# Altium footprint library LacewingPXE_v3p1.PcbLib: 35 footprints (part 2 of 3)
Each footprint in its own frame and in the unit in brackets; x right, y up, seen from the top. Pads: shape width x height; smd on the part's side, far side on the other; paste and mask are expansions set on the pad; w line width, h text height; cw(c..) or ccw(c..) is an arc to the next point about the centre after c.
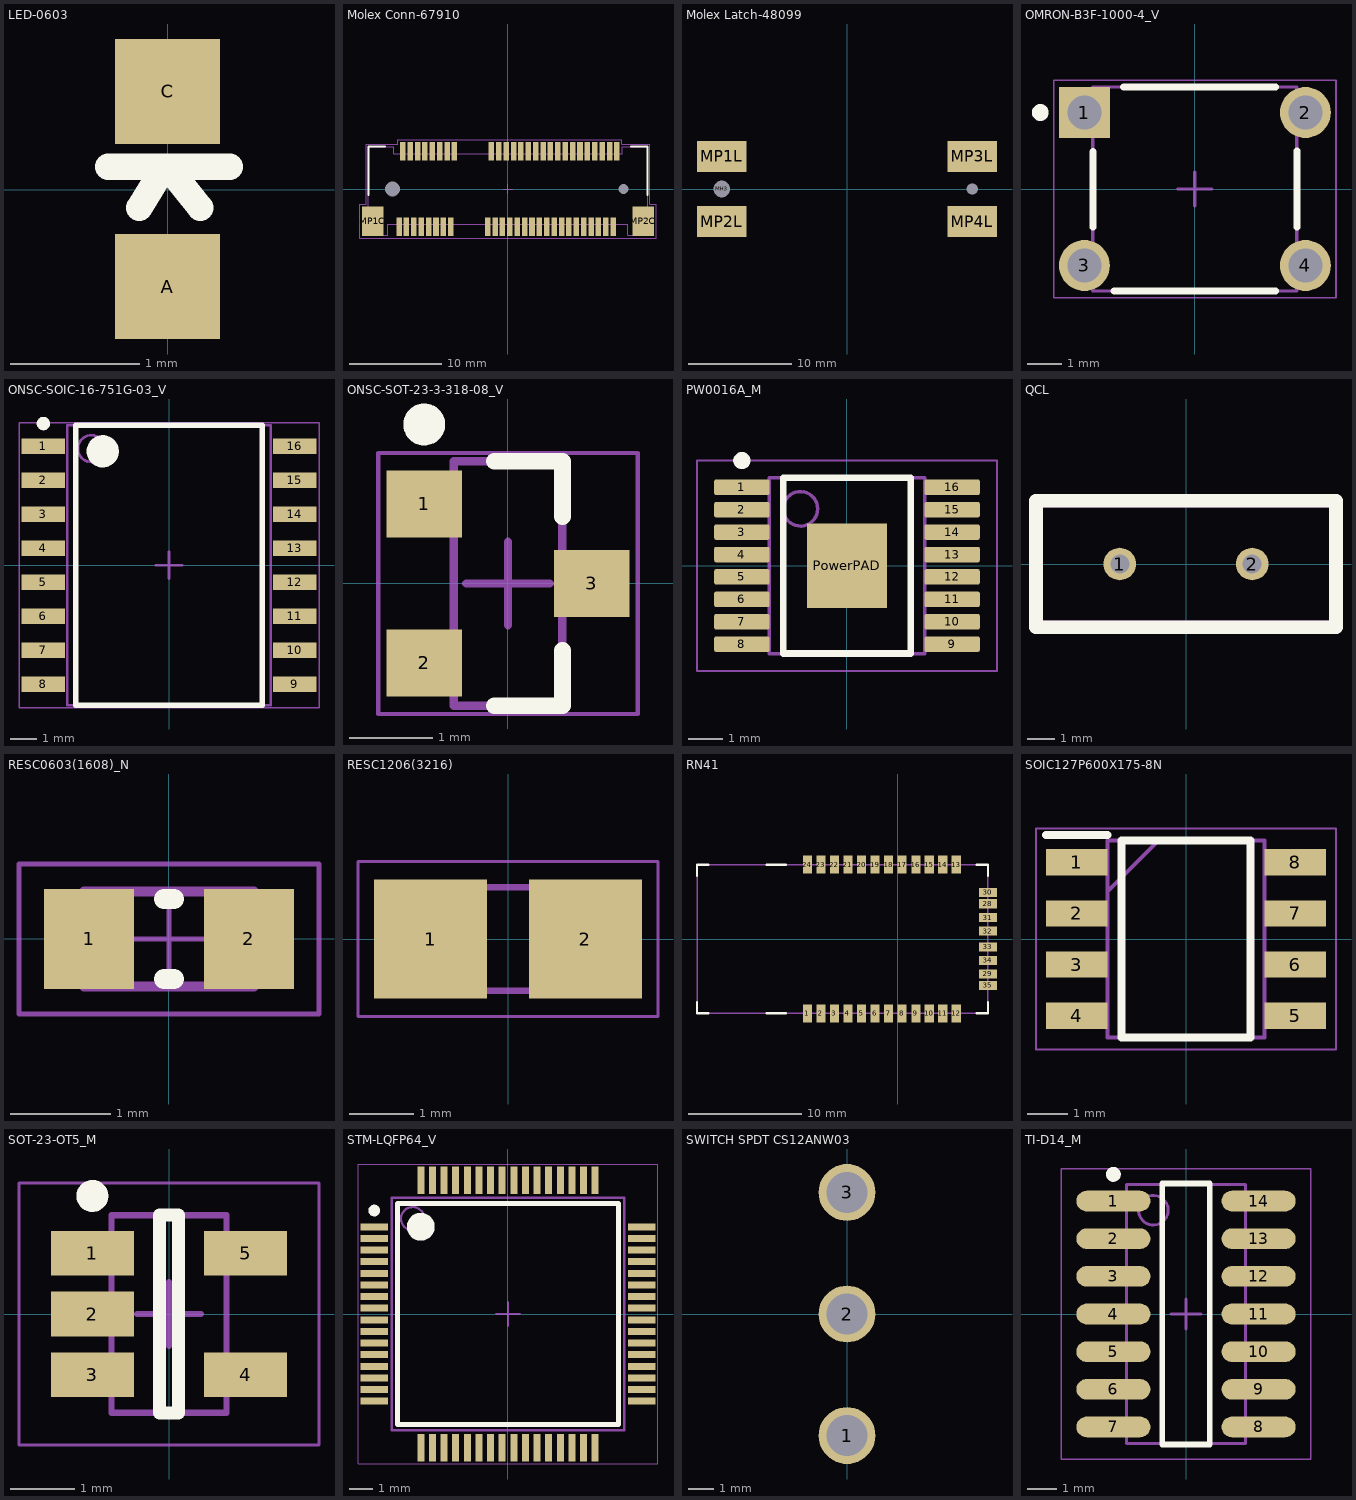
[diagram p1: the footprints below, top view; thin cyan lines are the x and y axes]

## LED-0603 [mil] "LED-0603"
pads (2):
  rect 32x32 smd: A(0,-29.53) C(0,30)
Top Overlay:
  lines w8: -18.11,7 0,7 ; -8.6,-5.51 -1,7 ; 10,-5.51 0,7 ; 19,7 0,7

## Molex Conn-67910 [mm] "Board-to-Board Connector, SMT, Right Angle, Pitch 0.8mm, 52-Position, Female"
pads (56):
  rect 0.6x2 smd: 1(-11.8,-4.1) 2(-11.4,4.1) 3(-11,-4.1) 4(-10.6,4.1) 5(-10.2,-4.1) 6(-9.8,4.1) 7(-9.4,-4.1) 8(-9,4.1) 9(-8.6,-4.1) 10(-8.2,4.1) 11(-7.8,-4.1) 12(-7.4,4.1) 13(-7,-4.1) 14(-6.6,4.1) 15(-6.2,-4.1) 16(-5.8,4.1) 17(-2.2,-4.1) 18(-1.8,4.1) 19(-1.4,-4.1) 20(-1,4.1) 21(-0.6,-4.1) 22(-0.2,4.1) 23(0.2,-4.1) 24(0.6,4.1) 25(1,-4.1) 26(1.4,4.1) 27(1.8,-4.1) 28(2.2,4.1) 29(2.6,-4.1) 30(3,4.1) 31(3.4,-4.1) 32(3.8,4.1) 33(4.2,-4.1) 34(4.6,4.1) 35(5,-4.1) 36(5.4,4.1) 37(5.8,-4.1) 38(6.2,4.1) 39(6.6,-4.1) 40(7,4.1) 41(7.4,-4.1) 42(7.8,4.1) 43(8.2,-4.1) 44(8.6,4.1) 45(9,-4.1) 46(9.4,4.1) 47(9.8,-4.1) 48(10.2,4.1) 49(10.6,-4.1) 50(11,4.1) 51(11.4,-4.1) 52(11.8,4.1)
  round 1.3 hole 1.6 unplated: MH1(-12.5,0)
  round 0.8 hole 1.1 unplated: MH2(12.5,0)
  rect 2.3x3.2 smd: MP1C(-14.65,-3.5) MP2C(14.65,-3.5)
Top Overlay:
  lines w0.2: -15.125,-0.633 -15.125,4.6 -14.907,4.6 -13.338,4.6 ; 13.329,4.6 15.125,4.6 ; 15.125,-0.645 15.125,4.535
Mechanical 13:
  lines w0.1: -15.125,-3.8 -14.025,-3.8 ; -15.125,-3.798 -15.125,4.6 -14.907,4.6 -12.375,4.6 -12.375,3.799 ; -14.027,-5 -13,-5 -13,-3.8 13,-3.8 13,-5 14.01,-5 14.025,-4.985 14.025,-3.804 ; -14.025,-5 -14.025,-3.822 ; -12.375,3.8 12.375,3.8 12.375,4.601 ; 12.375,4.6 15.125,4.6 15.125,4.535 15.125,-3.796 ; 14.025,-3.8 15.125,-3.8
Mechanical 15:
  lines w0.1: -0.5,0 0.5,0 ; 0,-0.5 0,0.5 ; -16.05,-5.35 16.05,-5.35 16.05,-1.65 15.375,-1.65 15.375,4.85 12.35,4.85 12.35,5.35 -11.95,5.35 -11.95,4.85 -15.375,4.85 -15.375,-1.65 -16.05,-1.65 -16.05,-5.35
3D body: height 0.82, standoff 0.2, extent 12.35,3.8 15,4.5
3D body: height 0.82, standoff 0.2, extent 15,4.5 15,4.5
3D body: height 0.82, standoff 0.2, extent -15,3.7 -12.35,4.5
3D body: height 1.34, standoff 0.69, extent 12.1,-4.25 13.79,-3.7
3D body: height 1.34, standoff 0.69, extent -13.79,-4.25 -12.1,-3.7
3D body: height 5.6, standoff 4.54, extent -13.79,-5 -12.1,-3.7
3D body: height 5.6, standoff 4.54, extent 12.1,-5 13.79,-3.7
3D body: height 5.6, standoff 3.12, extent -15,-3.7 15,3.677
3D body: height 3.12, standoff 0, extent -15,-3.7 15,3.8

## Molex Latch-48099 [mm]
pads (6):
  round 1.3 hole 1.6 unplated: MH3(-12.1,0)
  round 0.8 hole 1.1 unplated: MH4(12.1,0)
  rect 4.8x3 smd: MP1L(-12.1,3.15) MP2L(-12.1,-3.15) MP3L(12.1,3.15) MP4L(12.1,-3.15)

## OMRON-B3F-1000-4_V [mm] "TH, 4-Leads, Body 6x6mm"
height 4.5
pads (4):
  rect 1.5x1.5 hole 1 paste+0: 1(-3.25,2.25)
  round 1.5 hole 1 paste+0: 2(3.25,2.25) 3(-3.25,-2.25) 4(3.25,-2.25)
Top Overlay:
  circle w0.25: c-4.55,2.25 r0.125
  lines w0.2: -3,-1.127 -3,1.1 ; -2.378,-3 2.378,-3 ; -2.1,3 2.378,3 ; 3,-1.127 3,1.127
Mechanical 13:
  lines w0.1: -3,-3 -3,3 3,3 3,-3 -3,-3
Mechanical 15:
  lines w0.05: -4.15,-3.2 -4.15,3.2 4.15,3.2 4.15,-3.2 -4.15,-3.2
  lines w0.1: -0.5,0 0.5,0 ; 0,-0.5 0,0.5
3D body: height 4.5, standoff 0, extent -3,-3 3,3

## ONSC-SOIC-16-751G-03_V [mm] "SOIC, 16-Leads, Body 10.45x7.6mm, Pitch 1.27mm"
height 2.65
pads (16):
  rect 1.62x0.58 smd: 1(-4.69,4.445) 2(-4.69,3.175) 3(-4.69,1.905) 4(-4.69,0.635) 5(-4.69,-0.635) 6(-4.69,-1.905) 7(-4.69,-3.175) 8(-4.69,-4.445) 9(4.69,-4.445) 10(4.69,-3.175) 11(4.69,-1.905) 12(4.69,-0.635) 13(4.69,0.635) 14(4.69,1.905) 15(4.69,3.175) 16(4.69,4.445)
Top Overlay:
  circle w0.25: c-4.69,5.285 r0.125
  circle w0.6: c-2.475,4.25 r0.3
  lines w0.2: -3.48,-5.225 -3.48,5.225 3.48,5.225 3.48,-5.225 -3.48,-5.225
Mechanical 13:
  circle w0.1: c-2.9,4.35 r0.5
  lines w0.1: -3.8,-5.225 -3.8,5.225 3.8,5.225 3.8,-5.225 -3.8,-5.225
Mechanical 15:
  lines w0.05: -5.6,-5.325 -5.6,5.325 5.6,5.325 5.6,-5.325 -5.6,-5.325
  lines w0.1: -0.5,0 0.5,0 ; 0,-0.5 0,0.5
3D body: height 2.65, standoff 0.1, extent -3.8,-5.225 3.8,5.225

## ONSC-SOT-23-3-318-08_V [mm] "SOT23, 3-Leads, Body 2.92x1.3mm, Pitch 0.95mm"
height 1.11
pads (3):
  rect 0.9x0.8 smd: 1(-1,0.95) 2(-1,-0.95) 3(1,0)
Top Overlay:
  circle w0.25: c-1,1.9 r0.125
  lines w0.2: -0.165,-1.46 0.65,-1.46 0.65,-0.8 ; -0.165,1.46 0.65,1.46 0.65,0.8
Mechanical 13:
  lines w0.1: -0.65,-1.46 0.65,-1.46 0.65,1.46 -0.65,1.46 -0.65,-1.46
Mechanical 15:
  lines w0.05: -1.55,-1.56 1.55,-1.56 1.55,1.56 -1.55,1.56 -1.55,-1.56
  lines w0.1: -0.5,0 0.5,0 ; 0,-0.5 0,0.5
3D body: height 1.11, standoff 0.01, extent -0.65,-1.46 0.65,1.46

## PW0016A_M [mm] "SOP, 16-Leads, Body 5.1x4.5mm, Pitch 0.65mm, IPC Low Density"
height 1.2
pads (17):
  rrect22% 1.6x0.45 smd: 1(-3.05,2.275) 2(-3.05,1.625) 3(-3.05,0.975) 4(-3.05,0.325) 5(-3.05,-0.325) 6(-3.05,-0.975) 7(-3.05,-1.625) 8(-3.05,-2.275) 9(3.05,-2.275) 10(3.05,-1.625) 11(3.05,-0.975) 12(3.05,-0.325) 13(3.05,0.325) 14(3.05,0.975) 15(3.05,1.625) 16(3.05,2.275)
  rect 2.31x2.46 smd: PowerPAD(0,0)
Top Overlay:
  circle w0.25: c-3.05,3.05 r0.125
  lines w0.2: -1.85,-2.55 -1.85,2.55 1.85,2.55 1.85,-2.55 -1.85,-2.55
Mechanical 13:
  circle w0.1: c-1.35,1.65 r0.5
  lines w0.1: -2.25,-2.55 -2.25,2.55 2.25,2.55 2.25,-2.55 -2.25,-2.55
Mechanical 15:
  lines w0.05: -4.35,-3.05 -4.35,3.05 4.35,3.05 4.35,-3.05 -4.35,-3.05
  lines w0.1: -0.5,0 0.5,0 ; 0,-0.5 0,0.5
3D body "PW0016AakaMTC16.stp": height 1, standoff 0, extent -3.21,-2.5 3.21,2.5

## QCL [mm]
pads (2):
  round 1.2 hole 0.7: 1(-2.44,0) 2(2.44,0)
Top Overlay:
  lines w0.5: -5.525,-2.325 -5.525,2.325 5.525,2.325 5.525,-2.325 -5.525,-2.325
Mechanical 15:
  lines w0.5: -5.525,-2.325 5.525,-2.325 5.525,2.325 -5.525,2.325 -5.525,-2.325

## RESC0603(1608)_N [mm] "Chip Resistor, Body 1.6x0.8mm, IPC Medium Density"
height 0.6
pads (2):
  rect 0.9x1 smd: 1(-0.8,0) 2(0.8,0)
Top Overlay:
  lines w0.2: -0.05,-0.4 0.05,-0.4 ; -0.05,0.4 0.05,0.4
Mechanical 13:
  lines w0.1: -0.85,-0.475 0.85,-0.475 0.85,0.475 -0.85,0.475 -0.85,-0.475
Mechanical 15:
  lines w0.05: -0.475,0 0.475,0 ; 0,-0.475 0,0.475 ; -1.5,-0.75 1.5,-0.75 1.5,0.75 -1.5,0.75 -1.5,-0.75
3D body: height 0.6, standoff 0, extent -0.849,-0.474 -0.58,0.475
3D body: height 0.6, standoff 0, extent -0.58,-0.474 0.581,0.475
3D body: height 0.6, standoff 0, extent 0.581,-0.474 0.85,0.475

## RESC1206(3216) [mm]
pads (2):
  rect 1.75x1.85 smd: 1(-1.2,0) 2(1.2,0)
Mechanical 13:
  lines w0.1: -1.6,-0.8 -1.6,0.8 1.6,0.8 1.6,-0.8 -1.6,-0.8
Mechanical 15:
  lines w0.05: -2.325,-1.2 -2.325,1.2 2.325,1.2 2.325,-1.2 -2.325,-1.2
3D body "WSLP12061L000FEA.stp": height 0.89, standoff 0, extent -1.6,-0.8 1.6,0.8

## RN41 [mil]
pads (32):
  rect 32x63 smd: 1(-315.42,-259.92) 2(-268.18,-259.92) 3(-220.93,-259.92) 4(-173.69,-259.92) 5(-126.44,-259.92) 6(-79.2,-259.92) 7(-31.58,-259.92) 8(15.42,-259.92) 9(63.42,-259.92) 10(110.42,-259.92) 11(157.42,-259.92) 12(204.42,-259.92) 13(204.42,259.92) 14(157.42,259.92) 15(110.42,259.92) 16(63.42,259.92) 17(15.42,259.92) 18(-31.58,259.92) 19(-79.2,259.92) 20(-126.44,259.92) 21(-173.69,259.92) 22(-220.93,259.92) 23(-268.18,259.92) 24(-315.42,259.92)
  rect 63x32 smd: 28(315.42,122.92) 29(315.42,-122.13) 30(315.42,162.92) 31(315.42,74.92) 32(315.42,27.92) 33(315.42,-27.64) 34(315.42,-74.88) 35(315.42,-162.37)
Top Overlay:
  lines w8: -701.25,-220.55 -701.25,-259.92 -661.88,-259.92 ; -701.25,220.92 -701.25,259.92 -661.88,259.92 ; -457.15,-259.92 -390.22,-259.92 ; -457.15,259.92 -390.22,259.92 ; 275.42,-259.92 315.42,-259.92 315.42,-220.55 ; 275.42,259.92 315.42,259.92 315.42,220.92
Mechanical 16:
  lines w5: -701.25,-259.92 315.42,-259.92 315.42,259.92 -701.25,259.92 -701.25,-259.92

## SOIC127P600X175-8N [mm]
pads (8):
  rect 1.525x0.65 smd: 1(-2.712,1.905) 2(-2.712,0.635) 3(-2.712,-0.635) 4(-2.712,-1.905) 5(2.712,-1.905) 6(2.712,-0.635) 7(2.712,0.635) 8(2.712,1.905)
Top Overlay:
  lines w0.2: -3.475,2.58 -1.95,2.58 ; -1.6,-2.45 1.6,-2.45 1.6,2.45 -1.6,2.45 -1.6,-2.45
Mechanical 13:
  lines w0.1: -1.95,1.18 -0.68,2.45 ; -1.95,-2.45 1.95,-2.45 1.95,2.45 -1.95,2.45 -1.95,-2.45
Mechanical 15:
  lines w0.05: -3.725,-2.75 3.725,-2.75 3.725,2.75 -3.725,2.75 -3.725,-2.75
3D body "NE555DR.stp": height 1.75, standoff 0, extent -3,-2.45 3,2.45

## SOT-23-OT5_M [mm] "SOT23, 5-Leads, Body 2.9x1.7mm, Pitch 0.95mm, Lead Span 2.8mm, IPC Low Density"
height 1.45
pads (5):
  rect 1.3x0.7 smd: 1(-1.2,0.95) 2(-1.2,0) 3(-1.2,-0.95) 4(1.2,-0.95) 5(1.2,0.95)
Top Overlay:
  circle w0.25: c-1.2,1.85 r0.125
  lines w0.2: -0.15,-1.55 -0.15,1.55 0.15,1.55 0.15,-1.55 -0.15,-1.55
Mechanical 13:
  lines w0.1: -0.9,-1.55 0.9,-1.55 0.9,1.55 -0.9,1.55 -0.9,-1.55
Mechanical 15:
  lines w0.05: -2.35,-2.05 2.35,-2.05 2.35,2.05 -2.35,2.05 -2.35,-2.05
  lines w0.1: -0.5,0 0.5,0 ; 0,-0.5 0,0.5
3D body: height 1.45, standoff 0, extent -0.9,-1.55 0.9,1.55

## STM-LQFP64_V [mm] "Thin QFP, 64-Leads, Body 10x10mm, Pitch 0.5mm, ST Recommended"
height 1.6
pads (64):
  rect 1.2x0.3 smd: 1(-5.75,3.75) 2(-5.75,3.25) 3(-5.75,2.75) 4(-5.75,2.25) 5(-5.75,1.75) 6(-5.75,1.25) 7(-5.75,0.75) 8(-5.75,0.25) 9(-5.75,-0.25) 10(-5.75,-0.75) 11(-5.75,-1.25) 12(-5.75,-1.75) 13(-5.75,-2.25) 14(-5.75,-2.75) 15(-5.75,-3.25) 16(-5.75,-3.75) 33(5.75,-3.75) 34(5.75,-3.25) 35(5.75,-2.75) 36(5.75,-2.25) 37(5.75,-1.75) 38(5.75,-1.25) 39(5.75,-0.75) 40(5.75,-0.25) 41(5.75,0.25) 42(5.75,0.75) 43(5.75,1.25) 44(5.75,1.75) 45(5.75,2.25) 46(5.75,2.75) 47(5.75,3.25) 48(5.75,3.75)
  rect 0.3x1.2 smd: 17(-3.75,-5.75) 18(-3.25,-5.75) 19(-2.75,-5.75) 20(-2.25,-5.75) 21(-1.75,-5.75) 22(-1.25,-5.75) 23(-0.75,-5.75) 24(-0.25,-5.75) 25(0.25,-5.75) 26(0.75,-5.75) 27(1.25,-5.75) 28(1.75,-5.75) 29(2.25,-5.75) 30(2.75,-5.75) 31(3.25,-5.75) 32(3.75,-5.75) 49(3.75,5.75) 50(3.25,5.75) 51(2.75,5.75) 52(2.25,5.75) 53(1.75,5.75) 54(1.25,5.75) 55(0.75,5.75) 56(0.25,5.75) 57(-0.25,5.75) 58(-0.75,5.75) 59(-1.25,5.75) 60(-1.75,5.75) 61(-2.25,5.75) 62(-2.75,5.75) 63(-3.25,5.75) 64(-3.75,5.75)
Top Overlay:
  circle w0.25: c-5.75,4.45 r0.125
  circle w0.6: c-3.75,3.75 r0.3
  lines w0.2: -4.75,-4.75 -4.75,4.75 4.75,4.75 4.75,-4.75 -4.75,-4.75
Mechanical 13:
  circle w0.1: c-4.1,4.1 r0.5
  lines w0.1: -5,-5 -5,5 5,5 5,-5 -5,-5
Mechanical 15:
  lines w0.05: -6.45,-6.45 -6.45,6.45 6.45,6.45 6.45,-6.45 -6.45,-6.45
  lines w0.1: -0.5,0 0.5,0 ; 0,-0.5 0,0.5
3D body: height 1.6, standoff 0.05, extent -5,-5 5,5

## SWITCH SPDT CS12ANW03 [mm]
pads (3):
  round 2.2 hole 1.6: 1(0,-4.7) 2(0,0) 3(0,4.7)

## TI-D14_M [mm] "SOIC, 14-Leads, Body 8.65x3.9mm, Pitch 1.27mm, IPC Low Density"
height 1.75
pads (14):
  oval 2.5x0.7 smd: 1(-2.45,3.81) 2(-2.45,2.54) 3(-2.45,1.27) 4(-2.45,0) 5(-2.45,-1.27) 6(-2.45,-2.54) 7(-2.45,-3.81) 8(2.45,-3.81) 9(2.45,-2.54) 10(2.45,-1.27) 11(2.45,0) 12(2.45,1.27) 13(2.45,2.54) 14(2.45,3.81)
Top Overlay:
  circle w0.25: c-2.45,4.71 r0.125
  lines w0.2: -0.8,-4.4 -0.8,4.4 0.8,4.4 0.8,-4.4 -0.8,-4.4
Mechanical 13:
  circle w0.1: c-1.1,3.5 r0.5
  lines w0.1: -2,-4.375 -2,4.375 2,4.375 2,-4.375 -2,-4.375
Mechanical 15:
  lines w0.05: -4.2,-4.9 -4.2,4.9 4.2,4.9 4.2,-4.9 -4.2,-4.9
  lines w0.1: -0.5,0 0.5,0 ; 0,-0.5 0,0.5
3D body: height 1.75, standoff 0.1, extent -2,-4.375 2,4.375